# EAGLE library part TR3000 (library rfm-ash.lbr.)
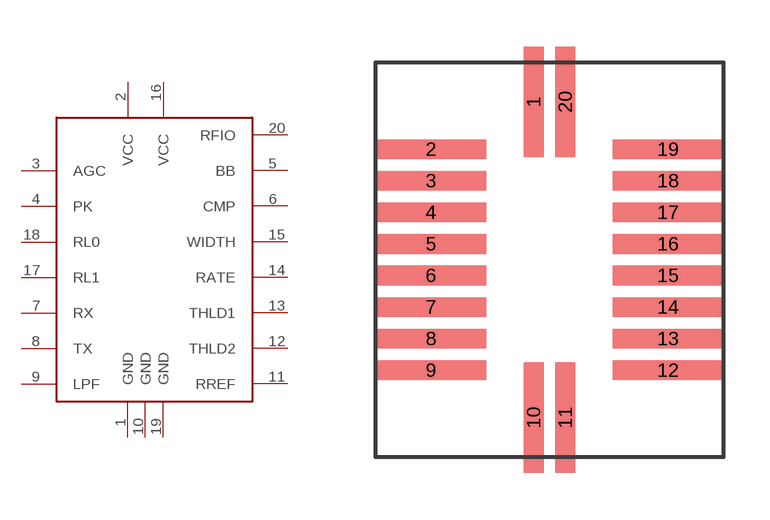
[diagram p1: symbol with the pads of SM-20L; footprint SM-20L]

Designator prefix -

## TR3000L  [SM-20L]
1  GND
2  VCC
3  AGC
4  PK
5  BB
6  CMP
7  RX
8  TX
9  LPF
10  GND
11  RREF
12  THLD2
13  THLD1
14  RATE
15  WIDTH
16  VCC
17  RL1
18  RL0
19  GND
20  RFIO

## Footprint SM-20L (pad centres in mm)
smd 0.635 x 3.556: 1 -0.508,5.08; 10 -0.508,-5.08; 11 0.508,-5.08; 20 0.508,5.08
smd 3.556 x 0.635: 2 -3.81,3.556; 3 -3.81,2.54; 4 -3.81,1.524; 5 -3.81,0.508; 6 -3.81,-0.508; 7 -3.81,-1.524; 8 -3.81,-2.54; 9 -3.81,-3.556; 12 3.81,-3.556; 13 3.81,-2.54; 14 3.81,-1.524; 15 3.81,-0.508; 16 3.81,0.508; 17 3.81,1.524; 18 3.81,2.54; 19 3.81,3.556